# EAGLE library part LTC3245 (library BW-Active)
250mA Buck-Boost Regulated Charge Pump
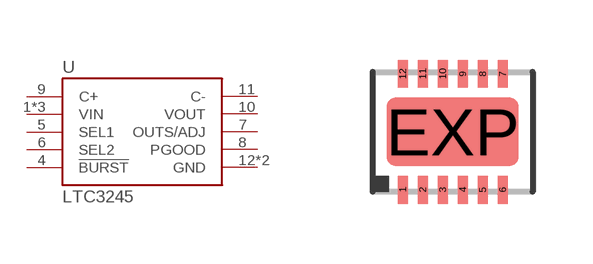
[diagram p51: symbol with the pads of DFN12; footprint DFN12]

Designator prefix U

## LTC3245DE  [DFN12]
1  VIN
2  VIN
3  VIN
4  !BURST
5  SEL1
6  SEL2
7  OUTS/ADJ
8  PGOOD
9  C+
10  VOUT
11  C-
12  GND
EXP  GND

## Footprint DFN12 (pad centres in mm)
DE/UE Package 12-Lead Plastic DFN (4mm × 3mm) Source: http://cds.linear.com/docs/Datasheet/1763ff.pdf
smd 0.25 x 0.7: 1 -1.25,-1.45; 2 -0.75,-1.45; 3 -0.25,-1.45; 4 0.25,-1.45; 5 0.75,-1.45; 6 1.25,-1.45; 7 1.25,1.45; 8 0.75,1.45; 9 0.25,1.45; 10 -0.25,1.45; 11 -0.75,1.45; 12 -1.25,1.45
smd 3.3 x 1.7: EXP 0,0